# Altium footprint library PCB1.PcbLib: 16 footprints
Each footprint in its own frame and in the unit in brackets; x right, y up, seen from the top. Pads: shape width x height; smd on the part's side, far side on the other; paste and mask are expansions set on the pad; w line width, h text height; cw(c..) or ccw(c..) is an arc to the next point about the centre after c.
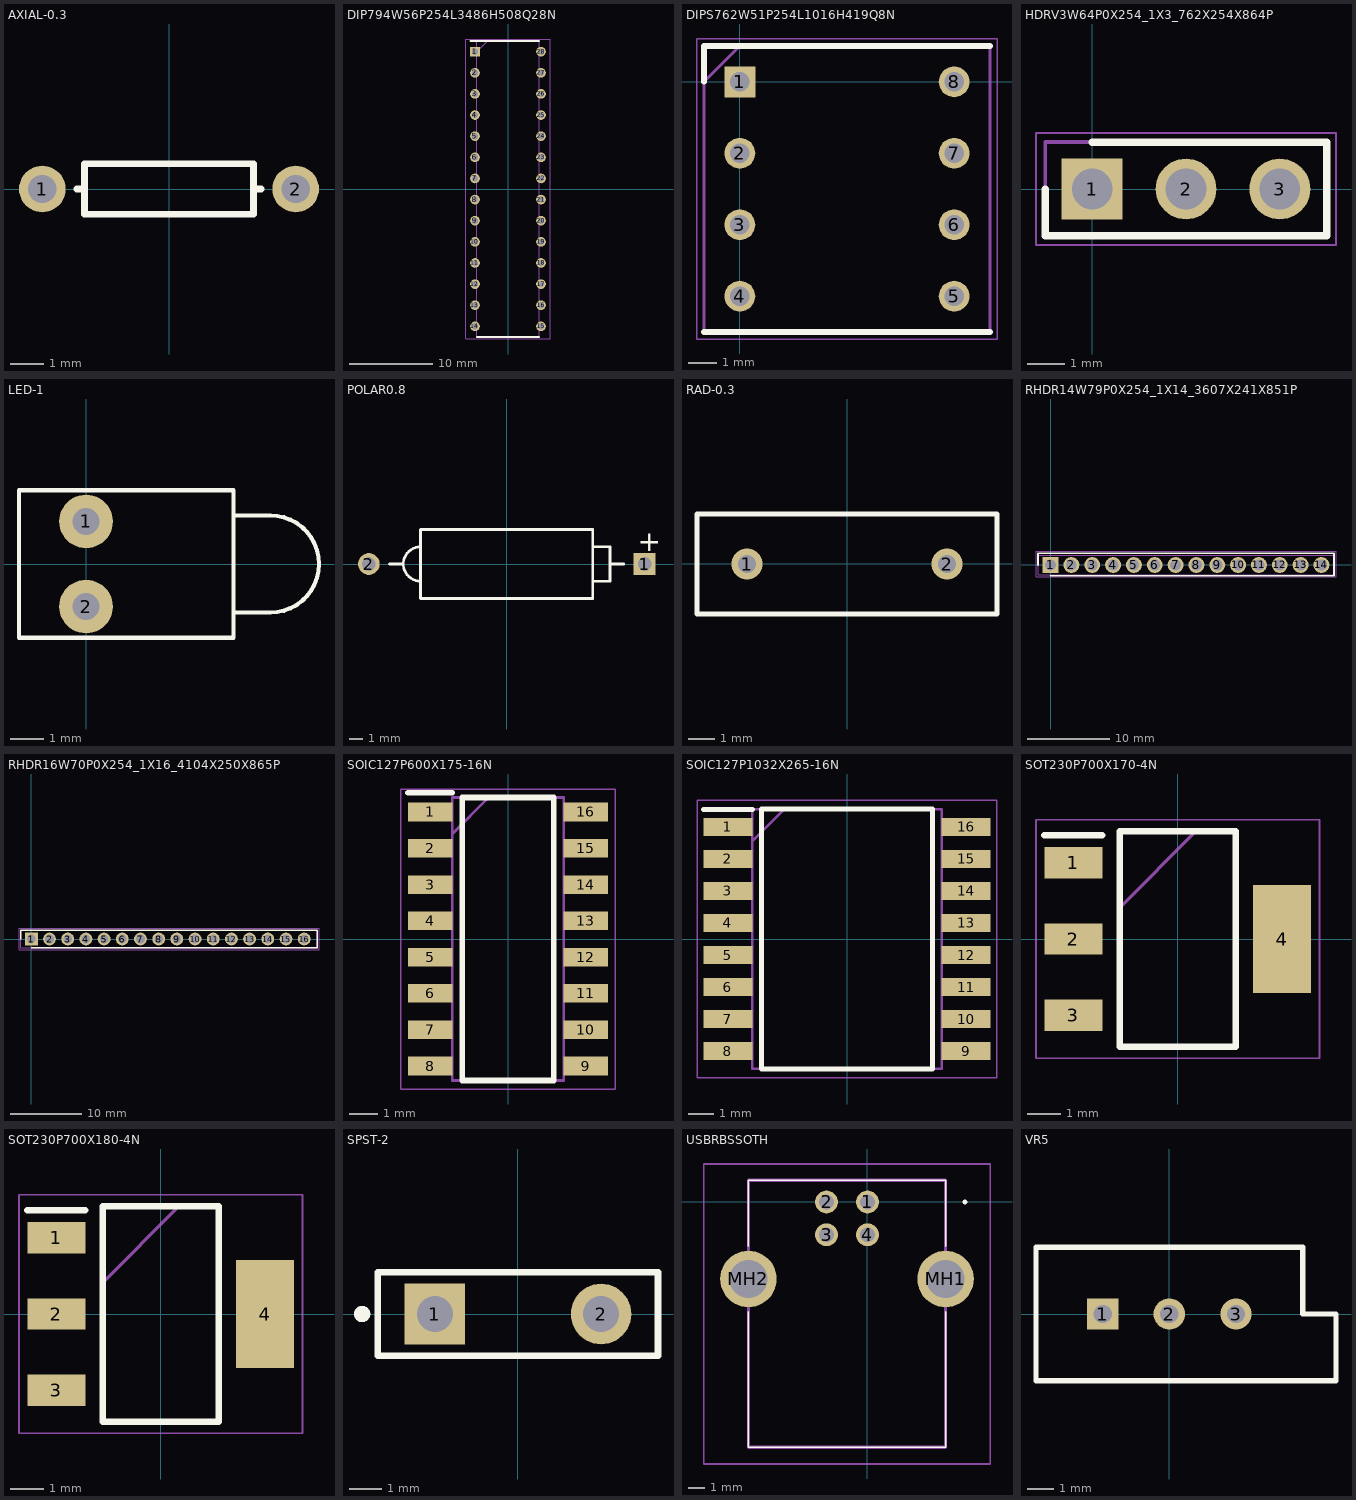
[diagram p0: the footprints below, top view; thin cyan lines are the x and y axes]

## AXIAL-0.3 [mm]
pads (2):
  round 1.4 hole 0.85: 1(-3.81,0) 2(3.81,0)
Top Overlay:
  lines w0.2: -2.769,0 -2.54,0 ; 2.769,0 2.54,0 ; 2.54,0 2.54,0.762 -2.54,0.762 -2.54,-0.762 2.54,-0.762 2.54,0

## DIP794W56P254L3486H508Q28N [mm]
pads (28):
  rect 1.159x1.159 hole 0.759: 1(-3.969,16.51)
  round 1.159 hole 0.759: 2(-3.969,13.97) 3(-3.969,11.43) 4(-3.969,8.89) 5(-3.969,6.35) 6(-3.969,3.81) 7(-3.969,1.27) 8(-3.969,-1.27) 9(-3.969,-3.81) 10(-3.969,-6.35) 11(-3.969,-8.89) 12(-3.969,-11.43) 13(-3.969,-13.97) 14(-3.969,-16.51) 15(3.969,-16.51) 16(3.969,-13.97) 17(3.969,-11.43) 18(3.969,-8.89) 19(3.969,-6.35) 20(3.969,-3.81) 21(3.969,-1.27) 22(3.969,1.27) 23(3.969,3.81) 24(3.969,6.35) 25(3.969,8.89) 26(3.969,11.43) 27(3.969,13.97) 28(3.969,16.51)
Top Overlay:
  lines w0.2: -4.548,17.78 3.746,17.78 ; -3.746,-17.78 3.746,-17.78
Mechanical 13:
  lines w0.1: -3.746,16.51 -2.476,17.78 ; -3.746,-17.78 3.746,-17.78 3.746,17.78 -3.746,17.78 -3.746,-17.78
Mechanical 15:
  lines w0.05: -5.084,-18.03 5.084,-18.03 5.084,18.03 -5.084,18.03 -5.084,-18.03
3D body "PIC16F1518-I_SP.stp": height 5.08, standoff -3.5, extent -4.109,-17.431 4.109,17.431

## DIPS762W51P254L1016H419Q8N [mm]
pads (8):
  rect 1.1x1.1 hole 0.7: 1(0,0)
  round 1.1 hole 0.7: 2(0,-2.54) 3(0,-5.08) 4(0,-7.62) 5(7.62,-7.62) 6(7.62,-5.08) 7(7.62,-2.54) 8(7.62,0)
Top Overlay:
  lines w0.2: -1.27,-8.89 8.89,-8.89 ; -1.27,0 -1.27,1.27 8.89,1.27
Mechanical 13:
  lines w0.1: -1.27,0 0,1.27 ; -1.27,-8.89 -1.27,1.27 8.89,1.27 8.89,-8.89 -1.27,-8.89
Mechanical 15:
  lines w0.05: -1.52,-9.14 -1.52,1.52 9.14,1.52 9.14,-9.14 -1.52,-9.14

## HDRV3W64P0X254_1X3_762X254X864P [mm]
pads (3):
  rect 1.65x1.65 hole 1.1: 1(0,0)
  round 1.65 hole 1.1: 2(2.54,0) 3(5.08,0)
Top Overlay:
  lines w0.2: -1.27,0 -1.27,-1.27 6.35,-1.27 6.35,1.27 0,1.27
Mechanical 13:
  lines w0.1: -1.27,-1.27 6.35,-1.27 6.35,1.27 -1.27,1.27 -1.27,-1.27
Mechanical 15:
  lines w0.05: -1.52,-1.52 6.6,-1.52 6.6,1.52 -1.52,1.52 -1.52,-1.52
3D body "M20-9990346.stp": height 8.64, standoff -3, extent -1.27,-1.27 6.35,1.27

## LED-1 [mm]
pads (2):
  round 1.6 hole 0.8: 1(0,1.27) 2(0,-1.27)
Top Overlay:
  lines w0.127: 4.4,-1.45 5.5,-1.45 ccw(c5.5,0) 5.5,1.45 4.4,1.45 ; -2,-2.2 -2,2.2 4.4,2.2 4.4,-2.2 -2,-2.2

## POLAR0.8 [mm]
pads (2):
  rect 1.6x1.6 hole 1: 1(10.16,0)
  round 1.6 hole 1: 2(-10.16,0)
Top Overlay:
  lines w0.2: -8.636,0 -7.62,0 ; -6.35,-1.27 cw(c-6.35,0) -6.35,1.27 ; 6.35,-1.27 7.62,-1.27 7.62,1.27 6.35,1.27 ; 7.62,0 8.636,0 ; -6.35,-2.54 -6.35,2.54 6.35,2.54 6.35,-2.54 -6.35,-2.54
  text "+" at 9.652,0.95 h1.5

## RAD-0.3 [mm]
pads (2):
  round 1.2 hole 0.7: 1(-3.81,0) 2(3.81,0)
Top Overlay:
  lines w0.2: -5.715,-1.905 -5.715,1.905 5.715,1.905 5.715,-1.905 -5.715,-1.905

## RHDR14W79P0X254_1X14_3607X241X851P [mm]
pads (14):
  rect 1.95x1.95 hole 1.3: 1(0,0)
  round 1.95 hole 1.3: 2(2.54,0) 3(5.08,0) 4(7.62,0) 5(10.16,0) 6(12.7,0) 7(15.24,0) 8(17.78,0) 9(20.32,0) 10(22.86,0) 11(25.4,0) 12(27.94,0) 13(30.48,0) 14(33.02,0)
Top Overlay:
  lines w0.2: -1.525,0 -1.525,1.445 34.545,1.445 34.545,-1.325 0,-1.325
Mechanical 13:
  lines w0.1: -1.525,-1.205 -1.525,1.205 34.545,1.205 34.545,-1.205 -1.525,-1.205
Mechanical 15:
  lines w0.05: -1.775,-1.455 -1.775,1.695 34.795,1.695 34.795,-1.455 -1.775,-1.455
3D body "SSW-114-01-G-S.stp": height 8.51, standoff -2.64, extent -1.525,-1.205 34.545,1.205

## RHDR16W70P0X254_1X16_4104X250X865P [mm]
pads (16):
  rect 1.8x1.8 hole 1.2: 1(0,0)
  round 1.8 hole 1.2: 2(2.54,0) 3(5.08,0) 4(7.62,0) 5(10.16,0) 6(12.7,0) 7(15.24,0) 8(17.78,0) 9(20.32,0) 10(22.86,0) 11(25.4,0) 12(27.94,0) 13(30.48,0) 14(33.02,0) 15(35.56,0) 16(38.1,0)
Top Overlay:
  lines w0.2: -1.47,0 -1.47,1.25 39.92,1.25 39.92,-1.25 0,-1.25
Mechanical 13:
  lines w0.1: -1.47,-1.25 39.92,-1.25 39.92,1.25 -1.47,1.25 -1.47,-1.25
Mechanical 15:
  lines w0.05: -1.72,-1.5 40.17,-1.5 40.17,1.5 -1.72,1.5 -1.72,-1.5
3D body "M20-7821642.stp": height 8.65, standoff -3.25, extent -1.47,-1.25 39.57,1.25

## SOIC127P600X175-16N [mm]
pads (16):
  rect 1.55x0.65 smd: 1(-2.725,4.445) 2(-2.725,3.175) 3(-2.725,1.905) 4(-2.725,0.635) 5(-2.725,-0.635) 6(-2.725,-1.905) 7(-2.725,-3.175) 8(-2.725,-4.445) 9(2.725,-4.445) 10(2.725,-3.175) 11(2.725,-1.905) 12(2.725,-0.635) 13(2.725,0.635) 14(2.725,1.905) 15(2.725,3.175) 16(2.725,4.445)
Top Overlay:
  lines w0.2: -3.5,5.12 -1.95,5.12 ; -1.6,-4.95 1.6,-4.95 1.6,4.95 -1.6,4.95 -1.6,-4.95
Mechanical 13:
  lines w0.1: -1.95,3.68 -0.68,4.95 ; -1.95,-4.95 1.95,-4.95 1.95,4.95 -1.95,4.95 -1.95,-4.95
Mechanical 15:
  lines w0.05: -3.75,-5.25 3.75,-5.25 3.75,5.25 -3.75,5.25 -3.75,-5.25
3D body "MC14053BDG.stp": height 1.75, standoff 0, extent -3,-4.95 3,4.95

## SOIC127P1032X265-16N [mm]
pads (16):
  rect 1.95x0.7 smd: 1(-4.725,4.445) 2(-4.725,3.175) 3(-4.725,1.905) 4(-4.725,0.635) 5(-4.725,-0.635) 6(-4.725,-1.905) 7(-4.725,-3.175) 8(-4.725,-4.445) 9(4.725,-4.445) 10(4.725,-3.175) 11(4.725,-1.905) 12(4.725,-0.635) 13(4.725,0.635) 14(4.725,1.905) 15(4.725,3.175) 16(4.725,4.445)
Top Overlay:
  lines w0.2: -5.7,5.145 -3.75,5.145 ; -3.4,-5.15 -3.4,5.15 3.4,5.15 3.4,-5.15 -3.4,-5.15
Mechanical 13:
  lines w0.1: -3.75,3.88 -2.48,5.15 ; -3.75,-5.15 -3.75,5.15 3.75,5.15 3.75,-5.15 -3.75,-5.15
Mechanical 15:
  lines w0.05: -5.95,-5.5 -5.95,5.5 5.95,5.5 5.95,-5.5 -5.95,-5.5
3D body "PCF8574AT_3,512.stp": height 2.65, standoff 0, extent -5.162,-5.15 5.162,5.15

## SOT230P700X170-4N [mm]
pads (4):
  rect 1.75x0.95 smd: 1(-3.15,2.3) 2(-3.15,0) 3(-3.15,-2.3)
  rect 1.75x3.25 smd: 4(3.15,0)
Top Overlay:
  lines w0.2: -4.025,3.125 -2.275,3.125 ; -1.75,-3.25 1.75,-3.25 1.75,3.25 -1.75,3.25 -1.75,-3.25
Mechanical 13:
  lines w0.1: -1.75,0.95 0.55,3.25 ; -1.75,-3.25 1.75,-3.25 1.75,3.25 -1.75,3.25 -1.75,-3.25
Mechanical 15:
  lines w0.05: -4.275,-3.6 4.275,-3.6 4.275,3.6 -4.275,3.6 -4.275,-3.6
3D body "MIC5209-3.3YS-TR.stp": height 1.7, standoff 0, extent -3.5,-3.25 3.5,3.25

## SOT230P700X180-4N [mm]
pads (4):
  rect 1.75x0.95 smd: 1(-3.15,2.3) 2(-3.15,0) 3(-3.15,-2.3)
  rect 1.75x3.25 smd: 4(3.15,0)
Top Overlay:
  lines w0.2: -4.025,3.125 -2.275,3.125 ; -1.75,-3.25 1.75,-3.25 1.75,3.25 -1.75,3.25 -1.75,-3.25
Mechanical 13:
  lines w0.1: -1.75,0.95 0.55,3.25 ; -1.75,-3.25 1.75,-3.25 1.75,3.25 -1.75,3.25 -1.75,-3.25
Mechanical 15:
  lines w0.05: -4.275,-3.6 4.275,-3.6 4.275,3.6 -4.275,3.6 -4.275,-3.6
3D body "MIC5209-5.0YS.stp": height 1.8, standoff 0, extent -3.5,-3.25 3.5,3.25

## SPST-2 [mm]
pads (2):
  rect 1.85x1.85 hole 1.1: 1(-2.54,0)
  round 1.85 hole 1.1: 2(2.54,0)
Top Overlay:
  circle w0.25: c-4.761,-0.001 r0.125
  lines w0.2: -4.28,-1.27 4.28,-1.27 4.28,1.27 -4.28,1.27 -4.28,-1.27

## USBRBSSOTH [mm]
pads (6):
  round 1.4 hole 0.9: 1(0,0) 2(-2.5,0) 3(-2.5,-2) 4(0,-2)
  round 3.45 hole 2.3: MH1(4.77,-4.7) MH2(-7.27,-4.7)
Top Overlay:
  lines w0.1: -7.27,-6.7 -7.27,-14.98 4.77,-14.98 4.77,-6.7 ; -7.27,-2.7 -7.27,1.3 -7.27,1.32 4.77,1.32 4.77,-2.7
  lines w0.2: 5.9,0 ccw(c5.95,0) 6,0 ; 5.9,0 cw(c5.95,0) 6,0 ; 5.9,0 ccw(c5.95,0) 6,0
Mechanical 13:
  lines w0.2: -7.27,-14.98 4.77,-14.98 4.77,1.32 -7.27,1.32 -7.27,-14.98
Mechanical 15:
  lines w0.1: -9.995,-16 7.495,-16 7.495,2.32 -9.995,2.32 -9.995,-16
3D body "USBR-B-S-S-O-TH.stp": height 11.1, standoff -5, extent -8.312,-14.98 5.82,1.32

## VR5 [mm]
pads (3):
  rect 1.2x1.2 hole 0.7: 1(-2.54,0)
  round 1.2 hole 0.7: 2(0,0) 3(2.54,0)
Top Overlay:
  lines w0.2: -5.08,-2.54 -5.08,2.54 5.08,2.54 5.08,0 6.35,0 6.35,-2.54 -5.08,-2.54